# Altium schematic symbol library inductor.SchLib: 3 symbols
Pins are listed as number, name and electrical type; pins without a type are passive.

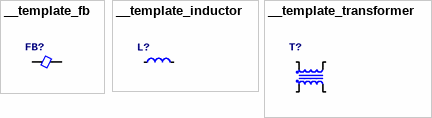
[diagram p0: symbols __template_fb to __template_transformer]

## __template_fb
designator FB?
pins: 1, 2

## __template_inductor
designator L?
pins: 1, 2

## __template_transformer
designator T?
pins: 1, 2, 3, 4